# Altium footprint library QFP_Sq_127P_Side_M.PcbLib: 1 footprints
Each footprint in its own frame and in the unit in brackets; x right, y up, seen from the top. Pads: shape width x height; smd on the part's side, far side on the other; paste and mask are expansions set on the pad; w line width, h text height; cw(c..) or ccw(c..) is an arc to the next point about the centre after c.
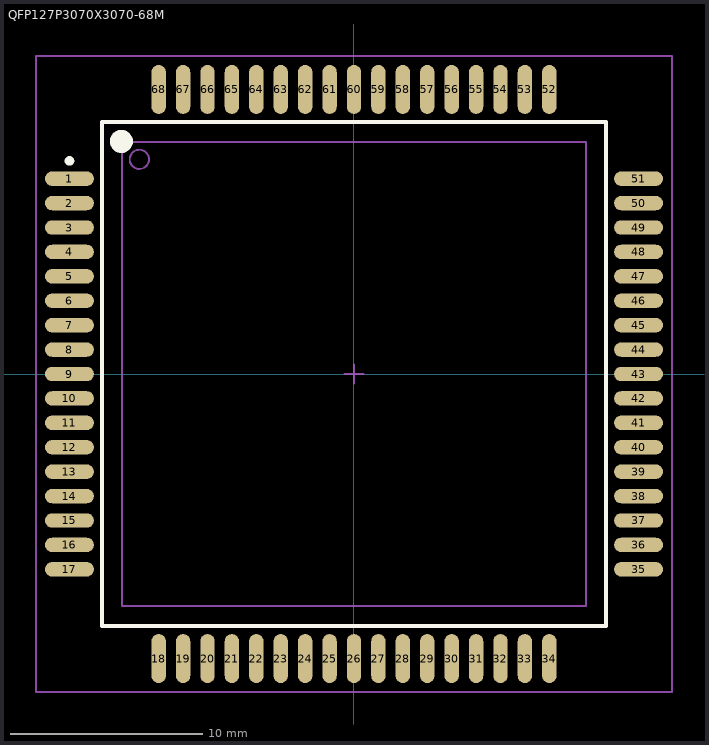
[diagram p0: the footprint, top view; thin cyan lines are the x and y axes]

## QFP127P3070X3070-68M [mm] "QFP, 68-Leads, Body 24x24mm, Pitch 1.27mm, IPC Low Density"
height 4.81
pads (68):
  oval 2.55x0.75 smd: 1(-14.8,10.16) 2(-14.8,8.89) 3(-14.8,7.62) 4(-14.8,6.35) 5(-14.8,5.08) 6(-14.8,3.81) 7(-14.8,2.54) 8(-14.8,1.27) 9(-14.8,0) 10(-14.8,-1.27) 11(-14.8,-2.54) 12(-14.8,-3.81) 13(-14.8,-5.08) 14(-14.8,-6.35) 15(-14.8,-7.62) 16(-14.8,-8.89) 17(-14.8,-10.16) 35(14.8,-10.16) 36(14.8,-8.89) 37(14.8,-7.62) 38(14.8,-6.35) 39(14.8,-5.08) 40(14.8,-3.81) 41(14.8,-2.54) 42(14.8,-1.27) 43(14.8,0) 44(14.8,1.27) 45(14.8,2.54) 46(14.8,3.81) 47(14.8,5.08) 48(14.8,6.35) 49(14.8,7.62) 50(14.8,8.89) 51(14.8,10.16)
  oval 0.75x2.55 smd: 18(-10.16,-14.8) 19(-8.89,-14.8) 20(-7.62,-14.8) 21(-6.35,-14.8) 22(-5.08,-14.8) 23(-3.81,-14.8) 24(-2.54,-14.8) 25(-1.27,-14.8) 26(0,-14.8) 27(1.27,-14.8) 28(2.54,-14.8) 29(3.81,-14.8) 30(5.08,-14.8) 31(6.35,-14.8) 32(7.62,-14.8) 33(8.89,-14.8) 34(10.16,-14.8) 52(10.16,14.8) 53(8.89,14.8) 54(7.62,14.8) 55(6.35,14.8) 56(5.08,14.8) 57(3.81,14.8) 58(2.54,14.8) 59(1.27,14.8) 60(0,14.8) 61(-1.27,14.8) 62(-2.54,14.8) 63(-3.81,14.8) 64(-5.08,14.8) 65(-6.35,14.8) 66(-7.62,14.8) 67(-8.89,14.8) 68(-10.16,14.8)
Top Overlay:
  circle w0.6: c-12.1,12.1 r0.3
  circle w0.25: c-14.8,11.085 r0.125
  lines w0.2: -13.1,-13.1 13.1,-13.1 13.1,13.1 -13.1,13.1 -13.1,-13.1
Mechanical 13:
  circle w0.1: c-11.165,11.165 r0.5
  lines w0.1: -12.065,-12.065 12.065,-12.065 12.065,12.065 -12.065,12.065 -12.065,-12.065
Mechanical 15:
  lines w0.1: -0.5,0 0.5,0 ; 0,-0.5 0,0.5 ; -16.55,-16.55 16.55,-16.55 16.55,16.55 -16.55,16.55 -16.55,-16.55
3D body: height 4.81, standoff 0, extent -12.065,-12.065 12.065,12.065